# Altium footprint library HGH.PcbLib: 336 footprints (part 11 of 21)
Each footprint in its own frame and in the unit in brackets; x right, y up, seen from the top. Pads: shape width x height; smd on the part's side, far side on the other; paste and mask are expansions set on the pad; w line width, h text height; cw(c..) or ccw(c..) is an arc to the next point about the centre after c.
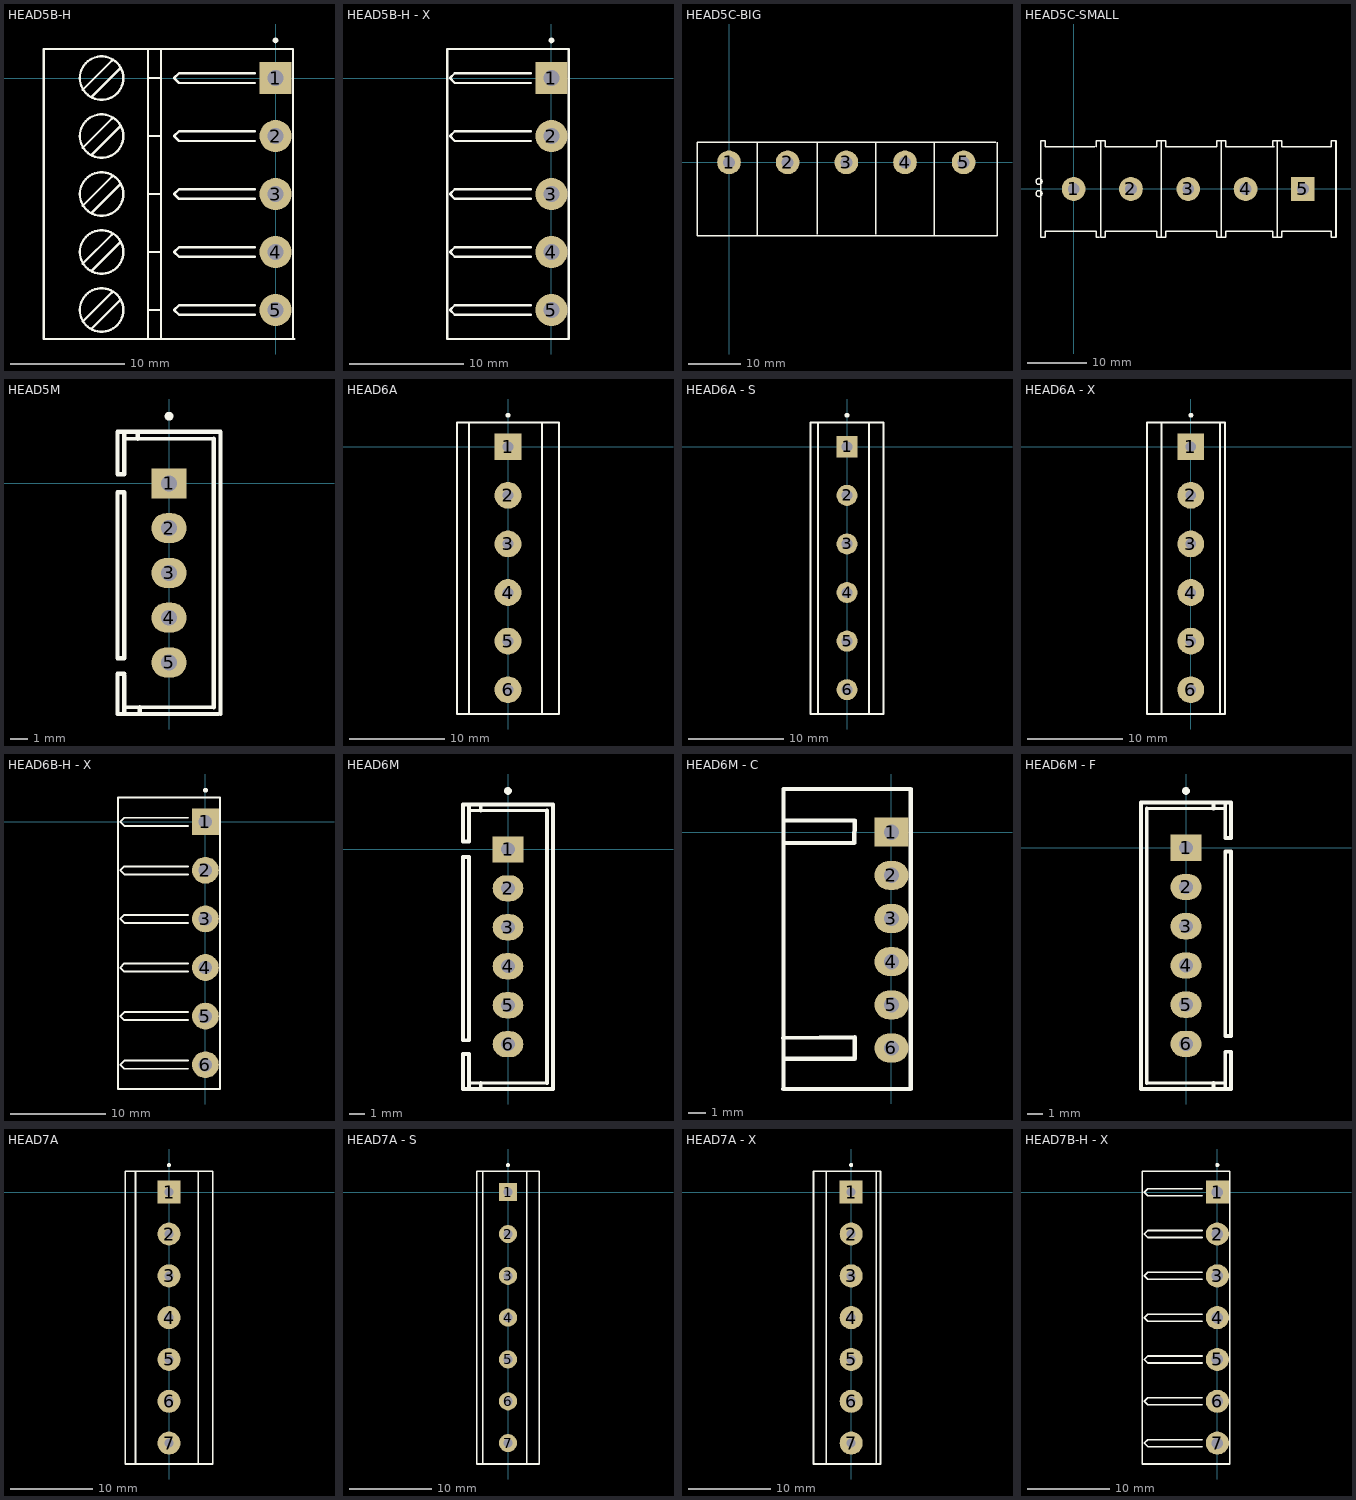
[diagram p10: the footprints below, top view; thin cyan lines are the x and y axes]

## HEAD5B-H [mm]
pads (5):
  rect 2.8x2.8 hole 1.4: 1(0,0)
  round 2.8 hole 1.4: 2(0,-5.08) 3(0,-10.16) 4(0,-15.24) 5(0,-20.32)
Top Overlay:
  circle w0.25: c0,3.3 r0.125
  circle w0.2: c-15.24,-20.32 r1.905
  circle w0.2: c-15.24,-15.24 r1.905
  circle w0.2: c-15.24,-10.16 r1.905
  circle w0.2: c-15.24,-5.08 r1.905
  circle w0.2: c-15.24,0 r1.905
  lines w0.2: -20.32,-22.86 -20.32,-12.7 -20.32,2.54 1.524,2.54 1.524,-12.7 1.524,-22.86 ; -20.193,-22.86 1.651,-22.86 ; -16.891,-21.336 -14.351,-18.796 ; -16.891,-16.256 -14.351,-13.716 ; -16.891,-11.176 -14.351,-8.636 ; -16.891,-6.096 -14.351,-3.556 ; -16.891,-1.016 -14.351,1.524 ; -16.129,-21.971 -13.589,-19.431 ; -16.129,-16.891 -13.589,-14.351 ; -16.129,-11.811 -13.589,-9.271 ; -16.129,-6.731 -13.589,-4.191 ; -16.129,-1.651 -13.589,0.889 ; -11.176,-22.86 -11.176,-12.7 -11.176,2.54 ; -11.176,-20.32 -10.033,-20.32 ; -11.176,-15.24 -10.033,-15.24 ; -11.176,-10.16 -10.033,-10.16 ; -11.176,-5.08 -10.033,-5.08 ; -11.176,0 -10.033,0 ; -10.033,-22.86 -10.033,-12.7 -10.033,2.54 ; -1.82,-20.743 -8.467,-20.743 -8.89,-20.32 -8.467,-19.897 -1.82,-19.897 ; -1.82,-15.663 -8.467,-15.663 -8.89,-15.24 -8.467,-14.817 -1.82,-14.817 ; -1.82,-10.583 -8.467,-10.583 -8.89,-10.16 -8.467,-9.737 -1.82,-9.737 ; -1.82,-5.503 -8.467,-5.503 -8.89,-5.08 -8.467,-4.657 -1.82,-4.657 ; -1.82,-0.423 -8.467,-0.423 -8.89,0 -8.467,0.423 -1.82,0.423

## HEAD5B-H - X [mm]
pads (5):
  rect 2.8x2.8 hole 1.4: 1(0,0)
  round 2.8 hole 1.4: 2(0,-5.08) 3(0,-10.16) 4(0,-15.24) 5(0,-20.32)
Top Overlay:
  circle w0.25: c0,3.3 r0.125
  lines w0.2: -1.82,-20.743 -8.467,-20.743 -8.89,-20.32 -8.467,-19.897 -1.82,-19.897 ; -1.82,-15.663 -8.467,-15.663 -8.89,-15.24 -8.467,-14.817 -1.82,-14.817 ; -1.82,-10.583 -8.467,-10.583 -8.89,-10.16 -8.467,-9.737 -1.82,-9.737 ; -1.82,-5.503 -8.467,-5.503 -8.89,-5.08 -8.467,-4.657 -1.82,-4.657 ; -1.82,-0.423 -8.467,-0.423 -8.89,0 -8.467,0.423 -1.82,0.423 ; 1.397,-22.86 -9.144,-22.86 -9.144,2.54 1.524,2.54 1.524,-12.7 1.524,-22.86

## HEAD5C-BIG [mm]
pads (5):
  round 4.5 hole 2.3: 1(0,0) 2(11.176,0) 3(22.352,0) 4(33.528,0) 5(44.704,0)
Top Overlay:
  lines w0.254: 4.826,3.81 5.842,3.81 ; 5.334,-13.97 5.334,3.81 ; 16.764,-13.716 16.764,3.81 ; 27.94,-13.716 27.94,3.81 ; 50.8,3.81 -6.096,3.81 -6.096,-13.97 51.054,-13.97 51.054,3.81 ; 39.116,-13.97 39.116,3.81 39.116,-13.97

## HEAD5C-SMALL [mm]
pads (5):
  round 4 hole 2: 1(0,0) 2(9.652,0) 3(19.304,0) 4(28.956,0)
  rect 4x4 hole 2: 5(38.608,0)
Top Overlay:
  circle w0.254: c-5.842,1.27 r0.508
  circle w0.254: c-5.842,-0.762 r0.508
  lines w0.254: 3.556,7.112 -4.826,7.112 -4.826,8.128 -5.588,8.128 -5.588,-8.128 -4.826,-8.128 -4.826,-7.112 3.81,-7.112 3.81,-8.128 4.318,-8.128 ; 3.81,7.112 3.81,8.128 4.572,8.128 ; 5.588,-7.112 13.97,-7.112 13.97,-8.128 14.986,-8.128 15.24,-8.128 15.494,-8.128 15.494,-7.112 16.256,-7.112 ; 5.588,7.112 13.97,7.112 13.97,8.128 14.986,8.128 ; 5.842,7.112 5.334,7.112 5.334,8.128 4.572,8.128 ; 6.604,-7.112 5.334,-7.112 5.334,-8.128 4.572,-8.128 4.572,8.128 ; 15.748,-7.112 24.13,-7.112 24.13,-8.128 25.146,-8.128 ; 15.748,7.112 24.13,7.112 24.13,8.128 25.146,8.128 ; 16.51,7.112 15.494,7.112 15.494,7.366 15.494,8.128 14.732,8.128 ; 33.528,-7.874 33.528,-7.112 25.654,-7.112 25.654,-8.128 24.892,-8.128 24.892,8.128 25.654,8.128 25.654,7.112 33.782,7.112 ; 33.528,-7.62 33.528,-8.128 34.29,-8.128 34.29,-7.874 34.29,8.128 33.528,8.128 33.528,7.112 ; 34.036,-8.128 35.052,-8.128 35.052,-7.112 43.434,-7.112 43.434,-8.128 44.196,-8.128 ; 34.036,8.128 35.052,8.128 35.052,7.112 43.434,7.112 43.434,8.128 44.196,8.128 ; 14.732,8.128 14.732,-8.128 14.732,8.128 ; 44.196,-8.128 44.196,8.128 ; 44.196,-8.128 44.196,8.128 ; 44.196,-8.128 44.196,8.128

## HEAD5M [mm]
pads (5):
  rect 2x1.7 hole 0.9: 1(0,0)
  oval 2x1.7 hole 0.9: 2(0,-2.54) 3(0,-5.08) 4(0,-7.62) 5(0,-10.16)
Top Overlay:
  circle w0.25: c0,3.808 r0.125
  lines w0.2: -2.54,2.54 2.54,2.54 ; -2.413,-12.7 2.54,-12.7
  lines w0.254: -2.54,-13.081 -2.54,-10.922 ; -2.54,-10.795 -2.921,-10.795 -2.921,-13.081 2.794,-13.081 ; -2.54,2.794 -2.54,2.54 -2.54,0.508 -2.921,0.508 -2.921,2.921 2.921,2.921 2.921,-13.081 ; -1.778,2.54 -1.778,2.921 ; -1.651,-13.081 -1.651,-12.7 ; 2.54,-12.7 2.54,2.54 ; -2.921,-9.906 -2.54,-9.906 -2.54,-0.508 -2.921,-0.508 -2.921,-9.906

## HEAD6A [mm]
pads (6):
  rect 2.8x2.8 hole 1.1: 1(0,0)
  round 2.8 hole 1.1: 2(0,-5.08) 3(0,-10.16) 4(0,-15.24) 5(0,-20.32) 6(0,-25.4)
Top Overlay:
  circle w0.25: c0,3.3 r0.125
  lines w0.2: -4.064,-27.94 -4.064,2.54 ; 3.556,-27.94 3.556,2.54 ; -5.334,-27.94 5.334,-27.94 5.334,2.54 -5.334,2.54 -5.334,-27.94

## HEAD6A - S [mm]
pads (6):
  rect 2.2x2.2 hole 1.1: 1(0,0)
  round 2.2 hole 1.1: 2(0,-5.08) 3(0,-10.16) 4(0,-15.24) 5(0,-20.32) 6(0,-25.4)
Top Overlay:
  circle w0.25: c0,3.3 r0.125
  lines w0.2: -3.048,-27.94 -3.048,-17.78 -3.048,-7.62 -3.048,2.54 ; 2.286,-27.94 2.286,-17.78 2.286,-7.62 2.286,2.54 ; -3.81,-27.94 3.81,-27.94 3.81,-17.78 3.81,-7.62 3.81,2.54 -3.81,2.54 -3.81,-7.62 -3.81,-17.78 -3.81,-27.94

## HEAD6A - X [mm]
pads (6):
  rect 2.8x2.8 hole 1.1: 1(0,0)
  round 2.8 hole 1.1: 2(0,-5.08) 3(0,-10.16) 4(0,-15.24) 5(0,-20.32) 6(0,-25.4)
Top Overlay:
  circle w0.25: c0,3.3 r0.125
  lines w0.2: -3.048,-27.94 -3.048,2.54 ; 3.048,-27.94 3.048,2.54 ; -4.572,-27.94 3.556,-27.94 3.556,2.54 -4.572,2.54 -4.572,-27.94

## HEAD6B-H - X [mm]
pads (6):
  rect 2.8x2.8 hole 1.4: 1(0,0)
  round 2.8 hole 1.4: 2(0,-5.08) 3(0,-10.16) 4(0,-15.24) 5(0,-20.32) 6(0,-25.4)
Top Overlay:
  circle w0.25: c0,3.3 r0.125
  lines w0.2: -1.82,-25.823 -8.467,-25.823 -8.89,-25.4 -8.467,-24.977 -1.82,-24.977 ; -1.82,-20.743 -8.467,-20.743 -8.89,-20.32 -8.467,-19.897 -1.82,-19.897 ; -1.82,-15.663 -8.467,-15.663 -8.89,-15.24 -8.467,-14.817 -1.82,-14.817 ; -1.82,-10.583 -8.467,-10.583 -8.89,-10.16 -8.467,-9.737 -1.82,-9.737 ; -1.82,-5.503 -8.467,-5.503 -8.89,-5.08 -8.467,-4.657 -1.82,-4.657 ; -1.82,-0.423 -8.467,-0.423 -8.89,0 -8.467,0.423 -1.82,0.423 ; -9.144,-27.94 -9.144,-17.78 -9.144,-7.62 -9.144,2.54 1.524,2.54 1.524,-7.62 1.524,-27.94 -9.144,-27.94

## HEAD6M [mm]
pads (6):
  rect 2x1.7 hole 0.9: 1(0,0)
  oval 2x1.7 hole 0.9: 2(0,-2.54) 3(0,-5.08) 4(0,-7.62) 5(0,-10.16) 6(0,-12.7)
Top Overlay:
  circle w0.25: c0,3.808 r0.125
  lines w0.2: -2.54,-15.24 2.413,-15.24 ; -2.54,2.54 2.54,2.54
  lines w0.254: -2.921,-15.621 -2.921,-13.335 -2.54,-13.335 -2.54,-15.494 ; -2.794,-15.621 2.921,-15.621 2.921,2.921 -2.921,2.921 -2.921,0.508 -2.54,0.508 -2.54,2.54 -2.54,2.794 ; -1.778,-15.621 -1.778,-15.24 ; -1.778,2.54 -1.778,2.921 ; 2.54,-15.24 2.54,2.54 ; -2.921,-12.446 -2.921,-0.508 -2.54,-0.508 -2.54,-12.446 -2.921,-12.446

## HEAD6M - C [mm]
pads (6):
  rect 2x1.7 hole 0.9: 1(0,0)
  oval 2x1.7 hole 0.9: 2(0,-2.54) 3(0,-5.08) 4(0,-7.62) 5(0,-10.16) 6(0,-12.7)
Top Overlay:
  lines w0.254: -6.375,-15.113 1.143,-15.113 1.143,2.54 -6.35,2.54 -6.35,-14.986 ; -6.375,-12.116 -2.159,-12.065 -2.159,-13.335 -6.35,-13.335 ; -6.35,-0.635 -2.184,-0.635 -2.159,0.686 -6.35,0.686

## HEAD6M - F [mm]
pads (6):
  rect 2x1.7 hole 0.9: 1(0,0)
  oval 2x1.7 hole 0.9: 2(0,-2.54) 3(0,-5.08) 4(0,-7.62) 5(0,-10.16) 6(0,-12.7)
Top Overlay:
  circle w0.25: c0,3.681 r0.125
  lines w0.2: -2.54,-15.24 2.54,-15.24 ; -2.413,2.54 2.54,2.54
  lines w0.254: -2.54,-15.24 -2.54,2.54 ; 1.778,-15.621 1.778,-15.24 ; 1.778,2.54 1.778,2.921 ; 2.54,-15.494 2.54,-15.24 2.54,-13.208 2.921,-13.208 2.921,-15.621 -2.921,-15.621 -2.921,2.921 2.794,2.921 ; 2.54,2.794 2.54,0.635 2.921,0.635 2.921,2.921 ; 2.54,-12.192 2.921,-12.192 2.921,-0.254 2.54,-0.254 2.54,-12.192

## HEAD7A [mm]
pads (7):
  rect 2.8x2.8 hole 1.1: 1(0,0)
  round 2.8 hole 1.1: 2(0,-5.08) 3(0,-10.16) 4(0,-15.24) 5(0,-20.32) 6(0,-25.4) 7(0,-30.48)
Top Overlay:
  circle w0.25: c0,3.3 r0.125
  lines w0.2: -4.064,-33.02 -4.064,-22.86 -4.064,-7.62 -4.064,2.54 ; 3.556,-33.02 3.556,-22.86 3.556,-7.62 3.556,2.54 ; -5.334,-33.02 5.334,-33.02 5.334,-22.86 5.334,-7.62 5.334,2.54 -5.334,2.54 -5.334,-7.62 -5.334,-22.86 -5.334,-33.02

## HEAD7A - S [mm]
pads (7):
  rect 2.2x2.2 hole 1.1: 1(0,0)
  round 2.2 hole 1.1: 2(0,-5.08) 3(0,-10.16) 4(0,-15.24) 5(0,-20.32) 6(0,-25.4) 7(0,-30.48)
Top Overlay:
  circle w0.25: c0,3.3 r0.125
  lines w0.2: -3.048,-33.02 -3.048,-22.86 -3.048,-12.7 -3.048,2.54 ; 2.286,-33.02 2.286,-22.86 2.286,-12.7 2.286,2.54 ; -3.81,-33.02 -3.81,-22.86 -3.81,-12.7 -3.81,2.54 3.81,2.54 3.81,-12.7 3.81,-22.86 3.81,-33.02 -3.81,-33.02

## HEAD7A - X [mm]
pads (7):
  rect 2.8x2.8 hole 1.1: 1(0,0)
  round 2.8 hole 1.1: 2(0,-5.08) 3(0,-10.16) 4(0,-15.24) 5(0,-20.32) 6(0,-25.4) 7(0,-30.48)
Top Overlay:
  circle w0.25: c0,3.3 r0.125
  lines w0.2: -3.048,-33.02 -3.048,2.54 ; 3.048,-33.02 3.048,2.54 ; -4.572,-33.02 -4.572,2.54 3.556,2.54 3.556,-33.02 -4.572,-33.02

## HEAD7B-H - X [mm]
pads (7):
  rect 2.8x2.8 hole 1.4: 1(0,0)
  round 2.8 hole 1.4: 2(0,-5.08) 3(0,-10.16) 4(0,-15.24) 5(0,-20.32) 6(0,-25.4) 7(0,-30.48)
Top Overlay:
  circle w0.25: c0,3.3 r0.125
  lines w0.2: -1.82,-30.903 -8.467,-30.903 -8.89,-30.48 -8.467,-30.057 -1.82,-30.057 ; -1.82,-25.823 -8.467,-25.823 -8.89,-25.4 -8.467,-24.977 -1.82,-24.977 ; -1.82,-20.743 -8.467,-20.743 -8.89,-20.32 -8.467,-19.897 -1.82,-19.897 ; -1.82,-15.663 -8.467,-15.663 -8.89,-15.24 -8.467,-14.817 -1.82,-14.817 ; -1.82,-10.583 -8.467,-10.583 -8.89,-10.16 -8.467,-9.737 -1.82,-9.737 ; -1.82,-5.503 -8.467,-5.503 -8.89,-5.08 -8.467,-4.657 -1.82,-4.657 ; -1.82,-0.423 -8.467,-0.423 -8.89,0 -8.467,0.423 -1.82,0.423 ; -9.144,-33.02 1.524,-33.02 1.524,-22.86 1.524,2.54 -9.144,2.54 -9.144,-22.86 -9.144,-33.02